# EAGLE library part MOTOR-DRIVER-MODULE-HG7881CP (library 00 MyModules)
MOTOR-DRIVER-MODULE-HG7881CP motor driver 1xStepper 2xDCmotors VCC=2.5-12V Imax=800mA (2A peak)
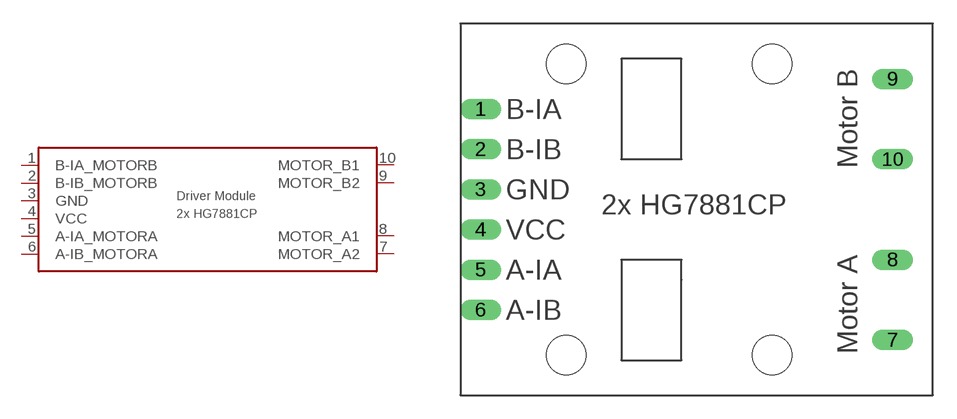
[diagram p1: symbol with the pads of MOTOR-DRIVER-MODULE-HG7881CP; footprint MOTOR-DRIVER-MODULE-HG7881CP]

Designator prefix MODULE_

## MOTOR-DRIVER-MODULE-HG7881CP  [MOTOR-DRIVER-MODULE-HG7881CP]
1  B-IA_MOTORB  in
2  B-IB_MOTORB  in
3  GND  pwr
4  VCC  pwr
5  A-IA_MOTORA  in
6  A-IB_MOTORA  in
7  MOTOR_A2  out
8  MOTOR_A1  out
9  MOTOR_B2  out
10  MOTOR_B1  out

## Footprint MOTOR-DRIVER-MODULE-HG7881CP (pad centres in mm)
drill 0.8 long: 1 -13.97,5.08; 2 -13.97,2.54; 3 -13.97,0; 4 -13.97,-2.54; 5 -13.97,-5.08; 6 -13.97,-7.62; 7 12.065,-9.525; 8 12.065,-4.445; 9 12.065,6.985; 10 12.065,1.905
hole 2.5 at -8.572,7.938
hole 2.5 at 4.445,7.938
hole 2.5 at 4.445,-10.477
hole 2.5 at -8.572,-10.477